# EAGLE library part SSA22/DPDT (library switches)
SW SLIDE DPDT 2POS SSA SER 30V
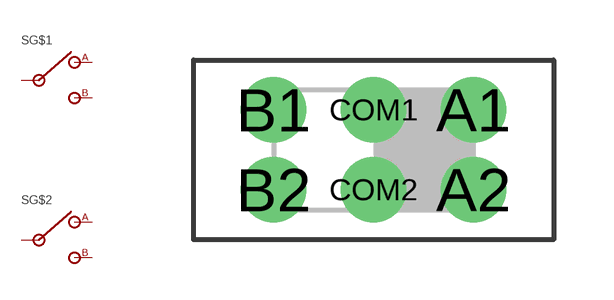
[diagram p6: symbol with the pads of SSA22/DPDT; footprint SSA22/DPDT]

Designator prefix S; gates G$1=SPDT G$2=SPDT

## SSA22/DPDT (DIGIKEY: 450-1604-ND; MOUSER: 506-SSA22; NEWARK: 50F5561)  [SSA22/DPDT]
A1  G$1:1
A2  G$2:1
B1  G$1:3
B2  G$2:3
COM1  G$1:2
COM2  G$2:2

## Footprint SSA22/DPDT (pad centres in mm)
drill 1.092: A1 2.5,1; A2 2.5,-1; B1 -2.5,1; B2 -2.5,-1; COM1 0,1; COM2 0,-1